# Altium footprint library DDR2-SODIMM.PcbLib: 1 footprints
Each footprint in its own frame and in the unit in brackets; x right, y up, seen from the top. Pads: shape width x height; smd on the part's side, far side on the other; paste and mask are expansions set on the pad; w line width, h text height; cw(c..) or ccw(c..) is an arc to the next point about the centre after c.
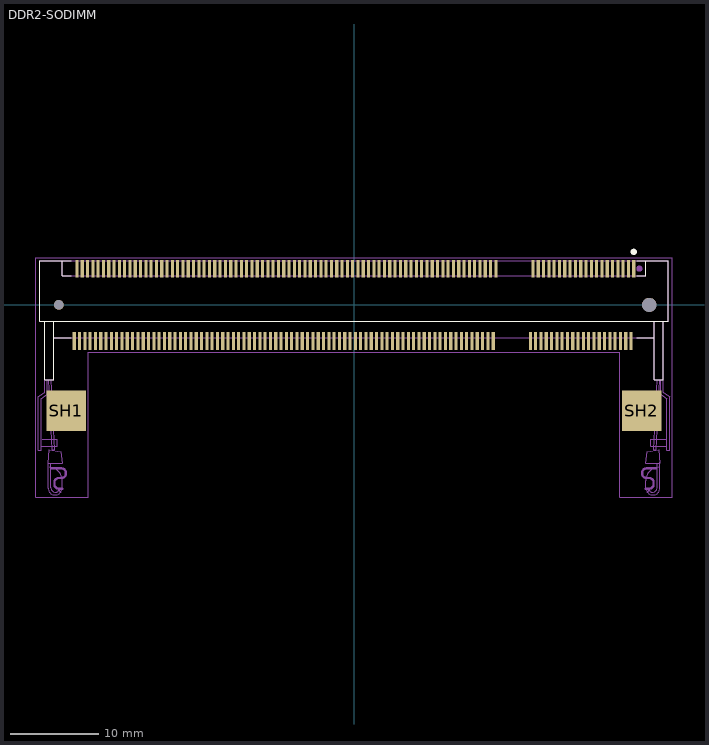
[diagram p0: the footprint, top view; thin cyan lines are the x and y axes]

## DDR2-SODIMM [mm]
pads (204):
  rect 0.35x2 smd: 1(31.65,4.1) 2(31.35,-4.1) 3(31.05,4.1) 4(30.75,-4.1) 5(30.45,4.1) 6(30.15,-4.1) 7(29.85,4.1) 8(29.55,-4.1) 9(29.25,4.1) 10(28.95,-4.1) 11(28.65,4.1) 12(28.35,-4.1) 13(28.05,4.1) 14(27.75,-4.1) 15(27.45,4.1) 16(27.15,-4.1) 17(26.85,4.1) 18(26.55,-4.1) 19(26.25,4.1) 20(25.95,-4.1) 21(25.65,4.1) 22(25.35,-4.1) 23(25.05,4.1) 24(24.75,-4.1) 25(24.45,4.1) 26(24.15,-4.1) 27(23.85,4.1) 28(23.55,-4.1) 29(23.25,4.1) 30(22.95,-4.1) 31(22.65,4.1) 32(22.35,-4.1) 33(22.05,4.1) 34(21.75,-4.1) 35(21.45,4.1) 36(21.15,-4.1) 37(20.85,4.1) 38(20.55,-4.1) 39(20.25,4.1) 40(19.95,-4.1) 41(16.05,4.1) 42(15.75,-4.1) 43(15.45,4.1) 44(15.15,-4.1) 45(14.85,4.1) 46(14.55,-4.1) 47(14.25,4.1) 48(13.95,-4.1) 49(13.65,4.1) 50(13.35,-4.1) 51(13.05,4.1) 52(12.75,-4.1) 53(12.45,4.1) 54(12.15,-4.1) 55(11.85,4.1) 56(11.55,-4.1) 57(11.25,4.1) 58(10.95,-4.1) 59(10.65,4.1) 60(10.35,-4.1) 61(10.05,4.1) 62(9.75,-4.1) 63(9.45,4.1) 64(9.15,-4.1) 65(8.85,4.1) 66(8.55,-4.1) 67(8.25,4.1) 68(7.95,-4.1) 69(7.65,4.1) 70(7.35,-4.1) 71(7.05,4.1) 72(6.75,-4.1) 73(6.45,4.1) 74(6.15,-4.1) 75(5.85,4.1) 76(5.55,-4.1) 77(5.25,4.1) 78(4.95,-4.1) 79(4.65,4.1) 80(4.35,-4.1) 81(4.05,4.1) 82(3.75,-4.1) 83(3.45,4.1) 84(3.15,-4.1) 85(2.85,4.1) 86(2.55,-4.1) 87(2.25,4.1) 88(1.95,-4.1) 89(1.65,4.1) 90(1.35,-4.1) 91(1.05,4.1) 92(0.75,-4.1) 93(0.45,4.1) 94(0.15,-4.1) 95(-0.15,4.1) 96(-0.45,-4.1) 97(-0.75,4.1) 98(-1.05,-4.1) 99(-1.35,4.1) 100(-1.65,-4.1) 101(-1.95,4.1) 102(-2.25,-4.1) 103(-2.55,4.1) 104(-2.85,-4.1) 105(-3.15,4.1) 106(-3.45,-4.1) 107(-3.75,4.1) 108(-4.05,-4.1) 109(-4.35,4.1) 110(-4.65,-4.1) 111(-4.95,4.1) 112(-5.25,-4.1) 113(-5.55,4.1) 114(-5.85,-4.1) 115(-6.15,4.1) 116(-6.45,-4.1) 117(-6.75,4.1) 118(-7.05,-4.1) 119(-7.35,4.1) 120(-7.65,-4.1) 121(-7.95,4.1) 122(-8.25,-4.1) 123(-8.55,4.1) 124(-8.85,-4.1) 125(-9.15,4.1) 126(-9.45,-4.1) 127(-9.75,4.1) 128(-10.05,-4.1) 129(-10.35,4.1) 130(-10.65,-4.1) 131(-10.95,4.1) 132(-11.25,-4.1) 133(-11.55,4.1) 134(-11.85,-4.1) 135(-12.15,4.1) 136(-12.45,-4.1) 137(-12.75,4.1) 138(-13.05,-4.1) 139(-13.35,4.1) 140(-13.65,-4.1) 141(-13.95,4.1) 142(-14.25,-4.1) 143(-14.55,4.1) 144(-14.85,-4.1) 145(-15.15,4.1) 146(-15.45,-4.1) 147(-15.75,4.1) 148(-16.05,-4.1) 149(-16.35,4.1) 150(-16.65,-4.1) 151(-16.95,4.1) 152(-17.25,-4.1) 153(-17.55,4.1) 154(-17.85,-4.1) 155(-18.15,4.1) 156(-18.45,-4.1) 157(-18.75,4.1) 158(-19.05,-4.1) 159(-19.35,4.1) 160(-19.65,-4.1) 161(-19.95,4.1) 162(-20.25,-4.1) 163(-20.55,4.1) 164(-20.85,-4.1) 165(-21.15,4.1) 166(-21.45,-4.1) 167(-21.75,4.1) 168(-22.05,-4.1) 169(-22.35,4.1) 170(-22.65,-4.1) 171(-22.95,4.1) 172(-23.25,-4.1) 173(-23.55,4.1) 174(-23.85,-4.1) 175(-24.15,4.1) 176(-24.45,-4.1) 177(-24.75,4.1) 178(-25.05,-4.1) 179(-25.35,4.1) 180(-25.65,-4.1) 181(-25.95,4.1) 182(-26.25,-4.1) 183(-26.55,4.1) 184(-26.85,-4.1) 185(-27.15,4.1) 186(-27.45,-4.1) 187(-27.75,4.1) 188(-28.05,-4.1) 189(-28.35,4.1) 190(-28.65,-4.1) 191(-28.95,4.1) 192(-29.25,-4.1) 193(-29.55,4.1) 194(-29.85,-4.1) 195(-30.15,4.1) 196(-30.45,-4.1) 197(-30.75,4.1) 198(-31.05,-4.1) 199(-31.35,4.1) 200(-31.65,-4.1)
  rect 4.5x4.6 smd: SH1(-32.55,-12) SH2(32.55,-12)
  round 1.1 hole 1.1 unplated: ""(-33.4,0)
  round 1.6 hole 1.6 unplated: ""(33.4,0)
Top Overlay:
  circle w0.5: c31.65,6 r0.1
  lines w0.127: -33,5 -32,5 ; -32,-3.7 -33.95,-3.7 ; -32,3.27 -33.02,3.27 -33.02,5 -35.55,5 -35.55,-1.85 -35,-1.85 ; 32,-3.7 33.95,-3.7 ; 32,3.27 33.02,3.27 33.02,5 35.55,5 35.55,-1.85 35,-1.85 ; 32,5 33,5 ; -35,-1.85 -35,-8.45 -33.95,-8.45 -33.95,-3.7 ; -35,-1.85 -33.95,-1.85 ; -33.95,-3.7 -33.95,-1.85 ; -33.95,-1.85 33.95,-1.85 ; 33.95,-1.85 33.95,-8.45 35,-8.45 35,-1.85 ; 33.95,-1.85 35,-1.85
Mechanical 1:
  circle w0.5: c32.285,4.095 r0.1
  lines w0.127: -35.75,-16.45 -35.75,-10.4 -35,-9.9 -35,-8.45 ; -35.7,-16.45 -35.4,-16.45 -35.4,-16 ; -35.3,-15.2 -33.6,-15.2 -33.6,-16 -35.4,-16 ; -34.7,-8.5 -34.7,-10.1 -35.4,-10.6 -35.4,-16 ; -34.6,-17.8 -34.6,-20.75 ccw(c-33.85,-20.75) -33.85,-21.5 -33.8,-21.5 ; -34.6,-8.5 -34.2,-16.4 -33.9,-16.4 -34.3,-8.5 ; -34.5,-18.4 cw(c-34.5,-19.9) -33,-19.9 -33,-20.8 ; -33.707,-21.5 -33.8,-21.5 ; -33.707,-21.2 -33.8,-21.2 cw(c-33.8,-20.7) -34.3,-20.7 -34.3,-17.9 ; -33.7,-21.2 ccw(c-33.7,-20.959) -33.529,-21.129 -33.4,-21 ; -32.6,-19.1 -32.6,-19 ; 32.6,-19.1 32.6,-19 ; 33.7,-21.2 cw(c33.7,-20.959) 33.529,-21.129 33.4,-21 ; 33.707,-21.5 33.8,-21.5 ; 33.707,-21.2 33.8,-21.2 ccw(c33.8,-20.7) 34.3,-20.7 34.3,-17.9 ; 34.3,-8.5 33.9,-16.4 34.2,-16.4 34.6,-8.5 ; 34.5,-18.4 ccw(c34.5,-19.9) 33,-19.9 33,-20.8 ; 34.6,-17.8 34.6,-20.75 cw(c33.85,-20.75) 33.85,-21.5 33.8,-21.5 ; 34.7,-8.5 34.7,-10.1 35.4,-10.6 35.4,-16 ; 35,-1.85 35,-8.45 ; 35.3,-15.2 33.6,-15.2 33.6,-16 35.4,-16 ; 35.7,-16.45 35.4,-16.45 35.4,-16 ; 35.75,-16.45 35.75,-10.4 35,-9.9 35,-8.45 ; -35,-8.45 -35,-1.85 ; -35,-8.45 -33.95,-8.45 -33.95,-3.7 ; -35,-1.85 -33.95,-1.85 ; -35,-1.85 -35.55,-1.85 -35.55,5 -33.02,5 ; -34.3,-17.9 -33,-17.9 -33.2,-16.6 -34.5,-16.4 -34.6,-17.9 -34.3,-17.9 ; -33.95,-3.7 -33.95,-1.85 ; -33.95,-3.7 33.95,-3.7 ; -33.95,-1.85 33.95,-1.85 ; -33.8,-21.5 ccw(c-33.8,-20.776) -33.288,-21.288 -33.2,-21.2 ; -33.4,-21 -33,-20.8 ; -33.4,-21 -33.2,-21.2 ; -33.2,-21.2 -33,-20.8 ; -33.02,5 -33.02,3.27 33.02,3.27 33.02,5 ; -33.02,5 33.02,5 ; 33,-20.8 33.2,-21.2 ; 33,-20.8 33.4,-21 ; 33.02,5 35.55,5 35.55,-1.85 33.95,-1.85 ; 33.2,-21.2 33.288,-21.288 ccw(c33.8,-20.776) 33.8,-21.5 ; 33.2,-21.2 33.4,-21 ; 33.95,-3.7 33.95,-8.45 35,-8.45 ; 33.95,-3.7 33.95,-1.85 ; 34.3,-17.9 33,-17.9 33.2,-16.6 34.5,-16.4 34.6,-17.9 34.3,-17.9
  lines w0.254: -34.2,-18.5 -33.1,-18.5 cw(c-33.1,-19) -32.6,-19 ; -33,-20.8 -33.4,-20.8 cw(c-33.4,-20.3) -33.9,-20.3 -33.9,-20.1 cw(c-33.4,-20.1) -33.4,-19.6 -33.1,-19.6 ccw(c-33.1,-19.1) -32.6,-19.1 ; 32.6,-19.1 ccw(c33.1,-19.1) 33.1,-19.6 33.4,-19.6 cw(c33.4,-20.1) 33.9,-20.1 33.9,-20.3 cw(c33.4,-20.3) 33.4,-20.8 33,-20.8 ; 32.6,-19 cw(c33.1,-19) 33.1,-18.5 34.2,-18.5
Mechanical 7:
  lines w0.05: -36,-21.75 -30.05,-21.75 -30.05,-5.35 30.05,-5.35 30.05,-21.75 36,-21.75 36,5.35 -36,5.35 -36,-21.75
Mechanical 9:
  text ".Designator" at -11.176,-13.716 h0.76
3D body "1473149-4--3DModel-STEP-56544.STEP": height 5.89, standoff -0.7, extent -35.687,-21.547 35.813,4.953
3D body: height 2, standoff -1.8, extent -36,-21.75 36,5.35